# EAGLE library part SIM_CARD_NANO (library konekt)
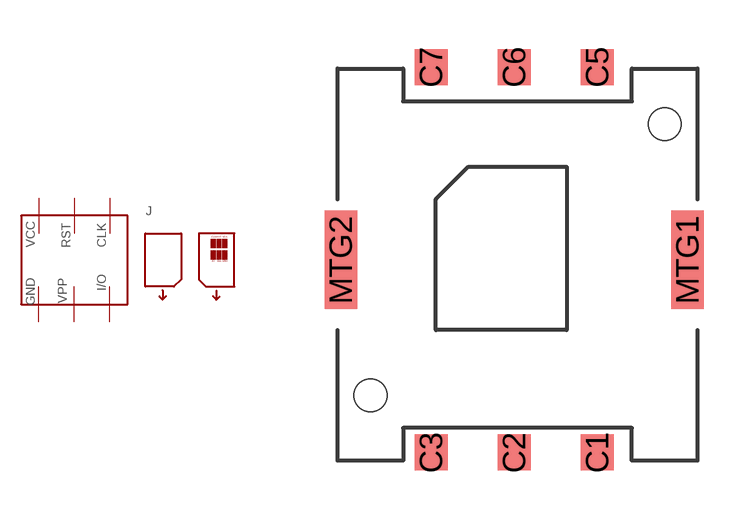
[diagram p2: symbol with the pads of SIM_CARD_NANO; footprint SIM_CARD_NANO]

Designator prefix J

## SIM_CARD_NANO (MFG: GLOBAL CONNECTOR TECHNOLOGY; MPN: SIM8100-6-0-15-01-A; PACKAGE: CUSTOM)  [SIM_CARD_NANO]
C1  VCC
C2  RST
C3  CLK
C5  GND
C6  VCC2
C7  IO
MTG1  NC1
MTG2  NC2

## Footprint SIM_CARD_NANO (pad centres in mm)
smd 1 x 1.1: C1 6.94,-1.75; C2 4.4,-1.75; C3 1.86,-1.75; C5 6.94,10.05; C6 4.4,10.05; C7 1.86,10.05
smd 1 x 3: MTG1 9.7,4.15; MTG2 -0.9,4.15
hole 1 at 0,0
hole 1 at 9,8.3